# EAGLE library part THAT4305 (library that-corp)
Analog Engine IC Pre-trimmed
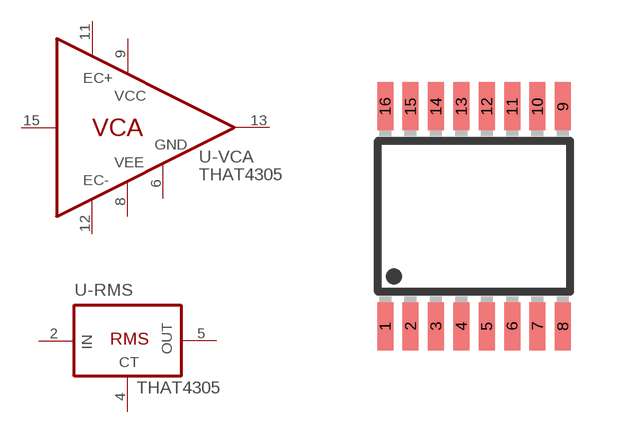
[diagram p5: symbol with the pads of QSOP16; footprint QSOP16]

Designator prefix U; gates -RMS=THAT4305_RMS -VCA=THAT4305_VCA

## THAT4305Q16-U  [QSOP16]
2  -RMS:RMS_IN  in
4  -RMS:CT  pas
5  -RMS:RMS_OUT  out
6  -VCA:GND  pas
8  -VCA:VEE  pwr
9  -VCA:VCC  pwr
11  -VCA:EC+  in
12  -VCA:EC-  in
13  -VCA:OUT  out
15  -VCA:IN  in

## Footprint QSOP16 (pad centres in mm)
QSOP-16
smd 0.4 x 1.2: 1 -2.223,-2.75; 2 -1.588,-2.75; 3 -0.953,-2.75; 4 -0.318,-2.75; 5 0.318,-2.75; 6 0.953,-2.75; 7 1.588,-2.75; 8 2.223,-2.75; 9 2.223,2.75; 10 1.588,2.75; 11 0.953,2.75; 12 0.318,2.75; 13 -0.318,2.75; 14 -0.953,2.75; 15 -1.588,2.75; 16 -2.223,2.75